# EAGLE library part MIC2075-2Y (library TBKMicrel)
Single-Channel Power Distribution Switch
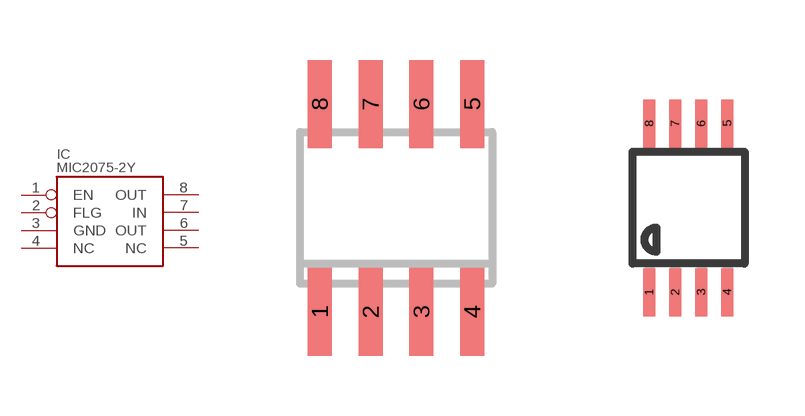
[diagram p3: symbol with the pads of SO08; footprints SO08, MSOP08]

Designator prefix IC

## MIC2075-2YM  [SO08]
1  EN
2  FLG  oc
3  GND  pwr
4  NC  nc
5  NC  nc
6  OUT  out
7  IN  in
8  OUT  out

## MIC2075-2YMM  [MSOP08]
Pads as for SO08

## Footprint SO08 (pad centres in mm)
SMALL OUTLINE INTEGRATED CIRCUIT body 3.9 mm/JEDEC MS-012AA
smd 0.6 x 2.2: 1 -1.905,-2.6; 2 -0.635,-2.6; 3 0.635,-2.6; 4 1.905,-2.6; 5 1.905,2.6; 6 0.635,2.6; 7 -0.635,2.6; 8 -1.905,2.6

## Footprint MSOP08 (pad centres in mm)
Mini Small Outline Package
smd 0.3 x 1.2: 1 -0.976,-2.113; 2 -0.326,-2.113; 3 0.324,-2.113; 4 0.974,-2.113; 5 0.974,2.112; 6 0.324,2.112; 7 -0.326,2.112; 8 -0.976,2.112